# EAGLE library part SF4D-* (library relay)
POLARISED, MONOSTABLE RELAY WITH FORCIBLY GUIDED DOUBLE CONTACTS NAiS Source: http://www.mew-europe.com/.. en_ds_61407_0002.pdf
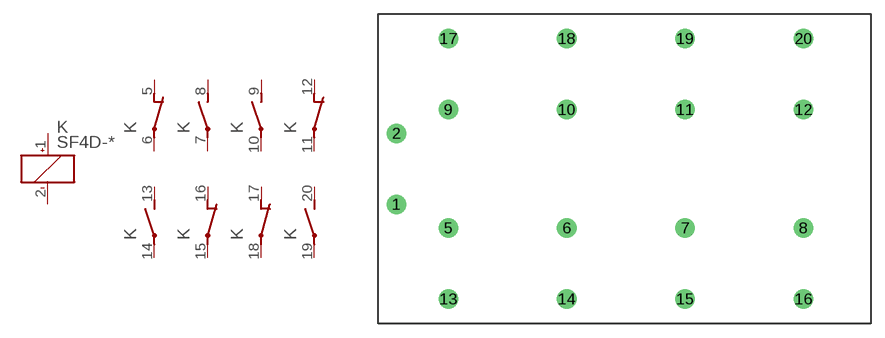
[diagram p106: symbol with the pads of SF4D; footprint SF4D]

Designator prefix K; gates 1=K+- 2=O 3=S 4=S 5=O 6=S 7=O 8=O 9=S

## SF4D-12V (OC_FARNELL: unknown; OC_NEWARK: unknown), SF4D-18V (OC_FARNELL: unknown; OC_NEWARK: unknown), SF4D-21V (OC_FARNELL: unknown; OC_NEWARK: unknown), SF4D-24V (OC_FARNELL: unknown; OC_NEWARK: unknown), SF4D-36V (OC_FARNELL: unknown; OC_NEWARK: unknown), SF4D-48V (OC_FARNELL: unknown; OC_NEWARK: unknown), SF4D-5V (OC_FARNELL: unknown; OC_NEWARK: unknown), SF4D-60V (OC_FARNELL: unknown; OC_NEWARK: unknown), SF4D-9V (OC_FARNELL: unknown; OC_NEWARK: unknown)  [SF4D]
1  1:+  pas
2  1:-  pas
5  2:O  pas
6  2:P  pas
7  3:P  pas
8  3:S  pas
9  4:S  pas
10  4:P  pas
11  5:P  pas
12  5:O  pas
13  6:S  pas
14  6:P  pas
15  7:P  pas
16  7:O  pas
17  8:O  pas
18  8:P  pas
19  9:P  pas
20  9:S  pas

## Footprint SF4D (pad centres in mm)
POLARISED, MONOSTABLE RELAY WITH FORCIBLY GUIDED DOUBLE CONTACTS NAiS Source: http://www.mew-europe.com/.. en_ds_61407_0002.pdf
drill 1.4: 1 -24.638,-3.81; 2 -24.638,3.81; 5 -19.05,-6.35; 6 -6.35,-6.35; 7 6.35,-6.35; 8 19.05,-6.35; 9 -19.05,6.35; 10 -6.35,6.35; 11 6.35,6.35; 12 19.05,6.35; 13 -19.05,-13.97; 14 -6.35,-13.97; 15 6.35,-13.97; 16 19.05,-13.97; 17 -19.05,13.97; 18 -6.35,13.97; 19 6.35,13.97; 20 19.05,13.97